# Altium schematic symbol library RELAY-2-FORM-C-NOLATCH.SchLib: 1 symbol
Pins are listed as number, name and electrical type; pins without a type are passive.

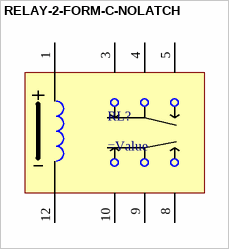
[diagram p0: symbol RELAY-2-FORM-C-NOLATCH]

## RELAY-2-FORM-C-NOLATCH
designator RL?
=Description
pins: 1, 3, 4, 5, 8, 9, 10, 12